# EAGLE library part REF102AU (library faout)
10V Precision Voltage Reference
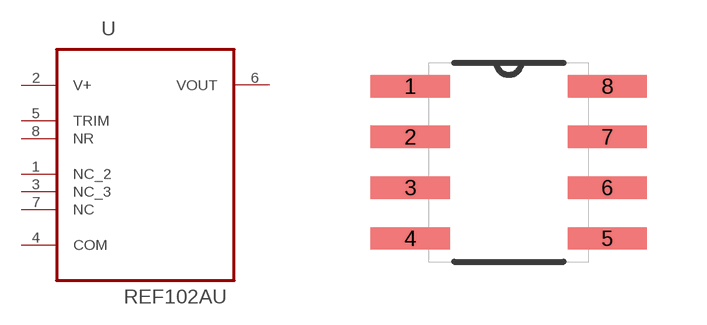
[diagram p4: symbol with the pads of SOIC127P600X175-8N; footprint SOIC127P600X175-8N]

Designator prefix U

## REF102AU (MPN: REF102AU; OC_FARNELL: 1212344; OC_NEWARK: 04M4600; PACKAGE: SOIC-8; SUPPLIER: Texas Instruments)  [SOIC127P600X175-8N]
1  NC_2  nc
2  V+  pwr
3  NC_3  nc
4  COM  pas
5  TRIM  pas
6  VOUT  out
7  NC  nc
8  NR  pas

## Footprint SOIC127P600X175-8N (pad centres in mm)
smd 1.981 x 0.559: 1 -2.464,1.905; 2 -2.464,0.635; 3 -2.464,-0.635; 4 -2.464,-1.905; 5 2.464,-1.905; 6 2.464,-0.635; 7 2.464,0.635; 8 2.464,1.905